# Altium footprint library PcbLib1.PcbLib: 23 footprints (part 1 of 2)
Each footprint in its own frame and in the unit in brackets; x right, y up, seen from the top. Pads: shape width x height; smd on the part's side, far side on the other; paste and mask are expansions set on the pad; w line width, h text height; cw(c..) or ccw(c..) is an arc to the next point about the centre after c.
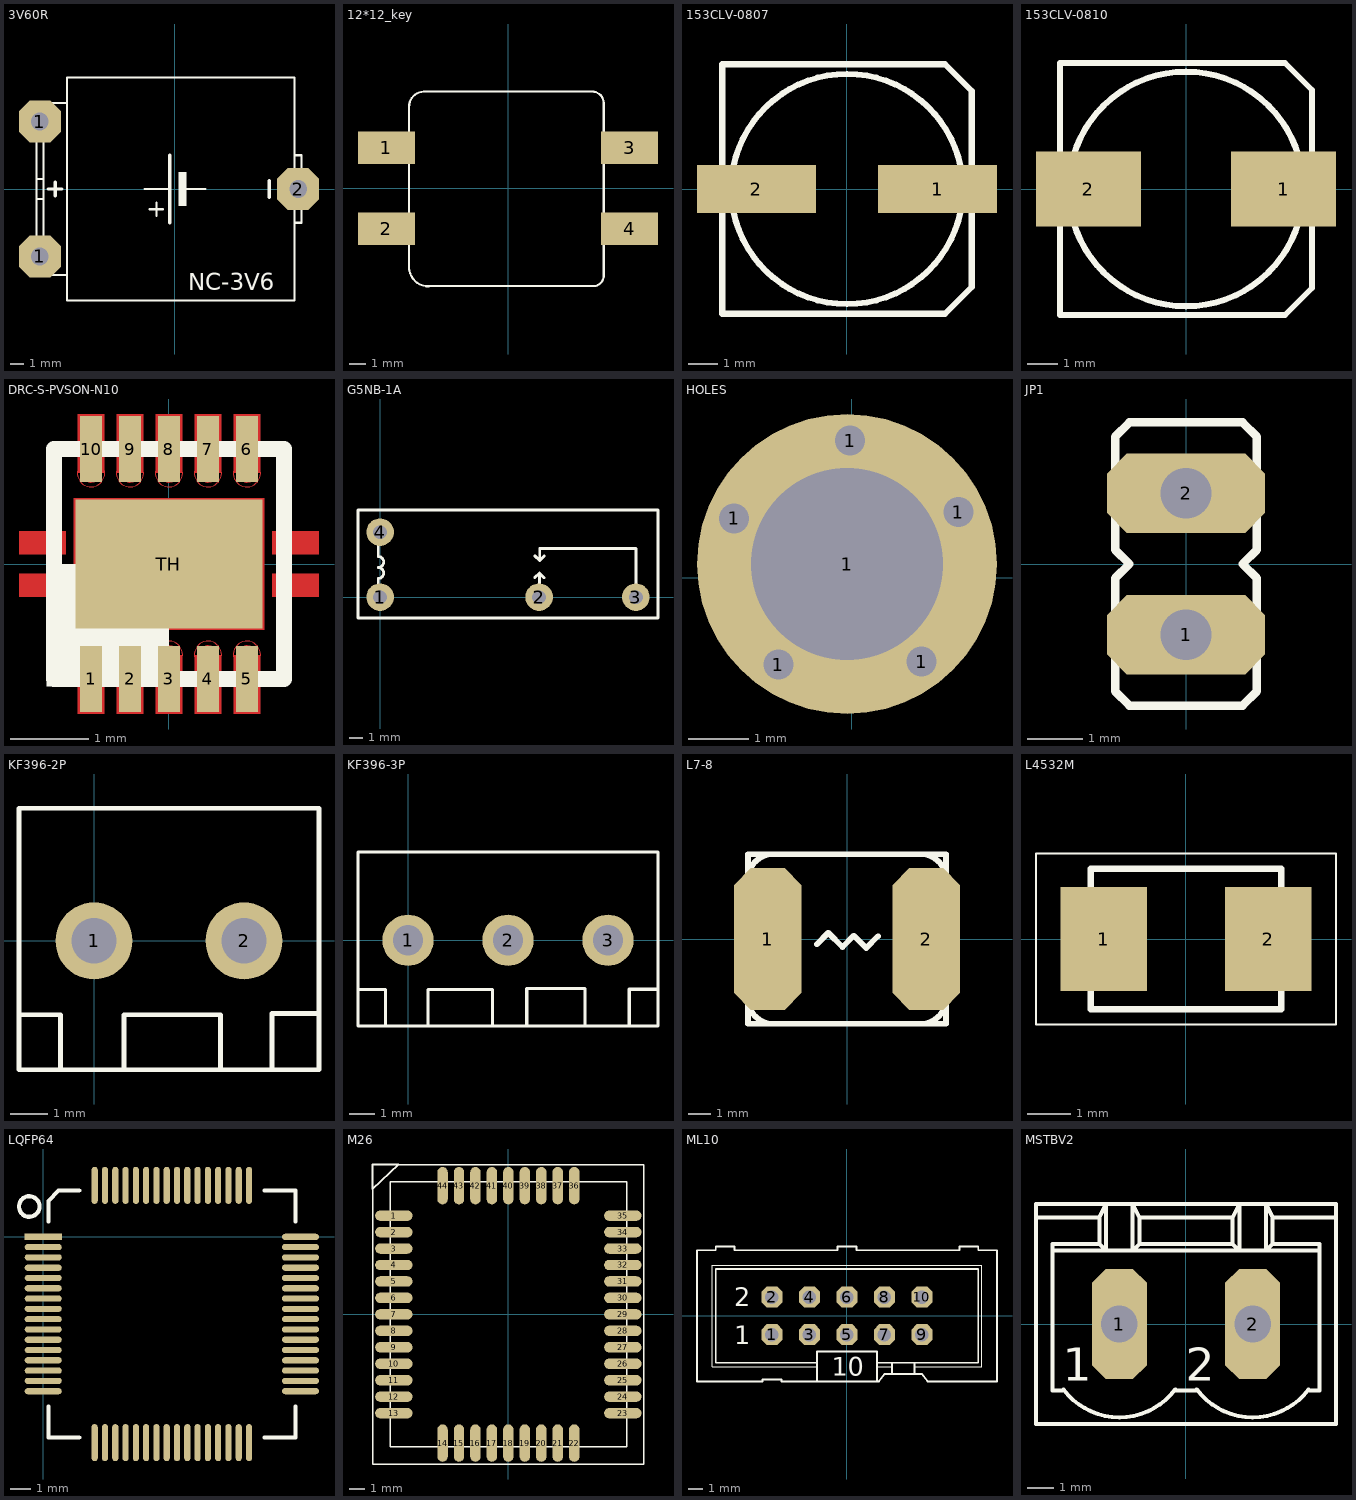
[diagram p0: the footprints below, top view; thin cyan lines are the x and y axes]

## 3V60R [mil]
pads (3):
  oct 124x124 hole 52: 1(-400,-200) 1(-400,200) 2(365,0)
Top Overlay:
  rectangle: 10,-50 35,50
  lines w6: -90,0 -15,0 ; -75,-60 -35,-60 ; -55,-80 -55,-40 ; 35,0 90,0 ; -410,-30 -410,-130 -410,-230 -390,-230 ; -410,-30 -390,-30 ; -410,-30 -410,30 ; -410,30 -390,30 ; -410,30 -410,130 -410,230 -390,230 ; -390,-230 ccw(c-365,-230) -365,-255 -355,-255 -320,-255 ; -390,-230 -390,-130 -390,-30 ; -390,-30 -390,30 ; -390,30 -390,130 -390,230 ; -390,230 cw(c-365,230) -365,255 -355,255 -320,255 ; -320,-255 -320,255 ; -320,-255 -320,-330 355,-330 355,-100 ; -320,255 -320,330 355,330 355,100 ; 355,-100 375,-100 375,-70 375,-30 ; 355,-100 355,-70 355,-30 ; 355,-30 375,-30 ; 355,-30 355,30 ; 355,30 375,30 ; 355,30 355,70 355,100 ; 355,100 375,100 375,70 375,30 ; 375,-30 375,30
  lines w10: -375,0 -335,0 ; -355,-20 -355,20 ; -15,-100 -15,0 -15,100 ; 280,-25 280,25
  text "NC-3V6" at 40,-300 h50

## 12*12_key [mm]
pads (4):
  rect 3.5x2 smd: 1(-7.5,2.5) 2(-7.5,-2.5) 3(7.5,2.5) 4(7.5,-2.5)
Top Overlay:
  lines w0.127: -6.096,-5.016 -6.096,5.016 cw(c-5.176,5.048) -5.207,5.968 ; -6.096,-4.89 ccw(c-4.912,-4.858) -4.881,-6.042 ; -5.145,5.967 5.145,5.967 ; -5.08,-6.032 5.334,-6.032 ; 5.207,-6.033 ccw(c5.238,-5.367) 5.904,-5.398 ; 5.207,5.968 cw(c5.207,5.271) 5.904,5.271 ; 5.904,-5.463 5.904,5.209

## 153CLV-0807 [mm]
pads (2):
  rect 4x1.6 smd: 1(3.05,0) 2(-3.05,0)
Top Overlay:
  lines w0.203: -4.2,-4.2 -4.2,-1.1 -4.2,1.1 -4.2,4.2 3.3,4.2 4.2,3.3 4.2,1.1 4.2,-1.1 4.2,-3.3 3.3,-4.2 -4.2,-4.2 ; -3.75,-1.05 cw(c0,0) -3.75,1.05 cw(c0,-0.025) 3.75,1.05 cw(c0,0) 3.75,-1.05 cw(c0,0.025) -3.75,-1.05

## 153CLV-0810 [mm]
pads (2):
  rect 3.5x2.5 smd: 1(3.25,0) 2(-3.25,0)
Top Overlay:
  lines w0.203: -4.2,-4.2 3.3,-4.2 4.2,-3.3 4.2,-1.5 4.2,1.5 4.2,3.3 3.3,4.2 -4.2,4.2 -4.2,1.5 -4.2,-1.5 -4.2,-4.2 ; -3.65,-1.4 ccw(c0,0) 3.65,-1.4 ccw(c0,0) 3.65,1.4 ccw(c0,0) -3.65,1.4 ccw(c0,0) -3.65,-1.4

## DRC-S-PVSON-N10 [mm]
pads (11):
  rect 0.28x0.85 smd: 1(-1,-1.475) 2(-0.5,-1.475) 3(0,-1.475) 4(0.5,-1.475) 5(1,-1.475) 6(1,1.475) 7(0.5,1.475) 8(0,1.475) 9(-0.5,1.475) 10(-1,1.475)
  rect 2.4x1.65 smd: TH(0,0)
Top Layer:
  circle w0.008: c-1,1.165 r0.175
  circle w0.008: c-0.5,1.165 r0.175
  circle w0.008: c0,1.165 r0.175
  circle w0.008: c0.5,1.165 r0.175
  circle w0.008: c1,1.165 r0.175
  circle w0.008: c1,-1.165 r0.175
  circle w0.008: c0.5,-1.165 r0.175
  circle w0.008: c0,-1.165 r0.175
  circle w0.008: c-0.5,-1.165 r0.175
  circle w0.008: c-1,1.165 r0.115
  circle w0.008: c-0.5,1.165 r0.115
  circle w0.008: c0,1.165 r0.115
  circle w0.008: c0.5,1.165 r0.115
  circle w0.008: c1,1.165 r0.115
  circle w0.008: c1,-1.165 r0.115
  circle w0.008: c0.5,-1.165 r0.115
  circle w0.008: c0,-1.165 r0.115
  circle w0.008: c-0.5,-1.165 r0.115
  circle w0.008: c-1,-1.165 r0.115
  circle w0.008: c-1,-1.165 r0.175
  region: 1.9,0.4 1.325,0.4 1.325,0.15 1.9,0.15
  region: 1.9,-0.15 1.325,-0.15 1.325,-0.4 1.9,-0.4
  region: 1.925,0.425 1.325,0.425 1.325,0.125 1.925,0.125
  region: 1.925,-0.125 1.325,-0.125 1.325,-0.425 1.925,-0.425
  region: -0.825,1.925 -1.175,1.925 -1.175,1.165 -0.825,1.165
  region: -0.325,1.925 -0.675,1.925 -0.675,1.165 -0.325,1.165
  region: 0.175,1.925 -0.175,1.925 -0.175,1.165 0.175,1.165
  region: 0.675,1.925 0.325,1.925 0.325,1.165 0.675,1.165
  region: 1.175,1.925 0.825,1.925 0.825,1.165 1.175,1.165
  rectangle: 0.825,-1.925 1.175,-1.165
  rectangle: 0.325,-1.925 0.675,-1.165
  rectangle: -0.175,-1.925 0.175,-1.165
  rectangle: -0.675,-1.925 -0.325,-1.165
  region: -1.115,1.85 -1.115,1.165 -0.885,1.165 -0.885,1.85
  region: -0.615,1.85 -0.615,1.165 -0.385,1.165 -0.385,1.85
  region: -0.115,1.85 -0.115,1.165 0.115,1.165 0.115,1.85
  region: 0.385,1.85 0.385,1.165 0.615,1.165 0.615,1.85
  region: 0.885,1.85 0.885,1.165 1.115,1.165 1.115,1.85
  region: 1.115,-1.85 1.115,-1.165 0.885,-1.165 0.885,-1.85
  region: 0.615,-1.85 0.615,-1.165 0.385,-1.165 0.385,-1.85
  region: 0.115,-1.85 0.115,-1.165 -0.115,-1.165 -0.115,-1.85
  region: -0.385,-1.85 -0.385,-1.165 -0.615,-1.165 -0.615,-1.85
  region: -0.885,-1.85 -0.885,-1.165 -1.115,-1.165 -1.115,-1.85
  rectangle: -1.175,-1.925 -0.825,-1.165
  region: 1.175,0.8 0.15,0.8 0.15,0.15 1.175,0.15
  region: 1.175,-0.15 0.15,-0.15 0.15,-0.8 1.175,-0.8
  rectangle: -1.175,-0.8 -0.15,-0.15
  rectangle: -1.175,0.15 -0.15,0.8
  rectangle: -1.9,-0.4 -1.325,-0.15
  rectangle: -1.9,0.15 -1.325,0.4
  rectangle: -1.225,-0.85 1.225,0.85
  rectangle: -1.925,-0.425 -1.325,-0.125
  rectangle: -1.925,0.125 -1.325,0.425
Top Overlay:
  rectangle: -1.575,-1.575 0,0
  lines w0.203: -1.475,-0.747 -1.475,-1.475 ; -1.475,0.748 -1.475,1.475 ; 1.475,-0.747 1.475,-1.475 ; 1.475,0.748 1.475,1.475 ; -1.475,-1.475 -1.475,1.475 ; -1.475,-1.475 1.475,-1.475 ; -1.475,1.475 1.475,1.475 ; 1.475,-1.475 1.475,1.475

## G5NB-1A [mm]
pads (4):
  round 2 hole 1: 1(0,0) 2(11.5,0) 3(18.5,0) 4(0,4.7)
Top Overlay:
  lines w0.203: -0.139,-0.53 -0.139,1.35 ccw(c-0.139,1.75) -0.139,2.15 ccw(c-0.139,2.55) -0.139,2.95 -0.139,3.939 ; 11.189,1.425 11.519,1.755 ; 11.189,3 11.544,2.644 ; 11.519,0.968 11.519,1.755 ; 11.874,1.4 11.519,1.755 ; 11.874,2.974 11.544,2.644 ; 18.5,0 18.5,3.53 11.544,3.53 11.544,2.644 ; -1.6,-1.5 -1.6,6.3 20.1,6.3 20.1,-1.5 -1.6,-1.5

## HOLES [mm]
pads (6):
  round 0.5 hole 0.5: 1(-1.956,0.991) 1(-1.219,-1.448) 1(-0.025,2.286) 1(1.168,-1.397) 1(1.778,1.092)
  round 5 hole 3.2: 1(-0.076,0.229)

## JP1 [mil]
pads (2):
  oct 112x56 hole 36: 1(0,-50) 2(0,50)
Top Overlay:
  rectangle: -12,38 12,62
  rectangle: -12,-62 12,-38
  lines w6: -50,-90 -50,-10 -40,0 -50,10 -50,90 -40,100 40,100 50,90 50,10 40,0 50,-10 50,-90 40,-100 -40,-100 -50,-90

## KF396-2P [mil]
pads (2):
  round 80 hole 47.24: 1(0,0) 2(155.91,0)
Top Overlay:
  lines w5: -77.95,-76.86 -34.95,-76.86 -34.95,-132.86 ; 31.05,-133.86 31.05,-76.86 131.55,-76.86 131.55,-133.86 ; 185.05,-132.36 185.05,-75.36 233.86,-75.36 ; -77.95,-133.86 233.86,-133.86 233.86,137.8 -77.95,137.8 -77.95,-133.86

## KF396-3P [mil]
pads (3):
  round 80 hole 47.24: 1(0,0) 2(155.91,0) 3(311.81,0)
Top Overlay:
  lines w5: -77.95,-76.86 -34.95,-76.86 -34.95,-132.86 ; 31.05,-133.86 31.05,-76.86 131.55,-76.86 131.55,-133.86 ; 185.05,-132.36 185.05,-75.36 233.86,-75.36 276.05,-75.36 276.05,-132.86 ; 345.05,-133.36 345.05,-76.36 389.76,-76.36 ; -77.95,-133.86 -77.95,137.8 389.76,137.8 389.76,-133.86 -77.95,-133.86

## L7-8 [mil]
pads (2):
  oct 120x250 smd: 1(-140,0) 2(140,0)
Top Overlay:
  lines w10: -53.18,-9.18 -33,11 -8,-14 12,6 34,-16 55,5 ; -175,-150 -175,150 175,150 175,-150 -175,-150 ; -175,-105 ccw(c-130,-105) -130,-150 130,-150 ccw(c130,-105) 175,-105 175,105 ccw(c130,105) 130,150 -130,150 ccw(c-130,105) -175,105 -175,-105

## L4532M [mm]
pads (2):
  rect 2x2.4 smd: 1(-1.9,0) 2(1.9,0)
Top Overlay:
  lines w0.051: -3.473,-1.983 -3.473,1.983 3.473,1.983 3.473,-1.983 -3.473,-1.983
  lines w0.152: -2.337,-1.041 -2.337,1.041 ; 2.337,-1.041 2.337,1.041 ; -2.21,-1.626 -2.21,1.626 2.21,1.626 2.21,-1.626 -2.21,-1.626

## LQFP64 [mm]
pads (64):
  rect 1.8x0.3 smd: 1(0,0)
  oval 1.8x0.3 smd: 2(0,-0.5) 3(0,-1) 4(0,-1.5) 5(0,-2) 6(0,-2.5) 7(0,-3) 8(0,-3.5) 9(0,-4) 10(0,-4.5) 11(0,-5) 12(0,-5.5) 13(0,-6) 14(0,-6.5) 15(0,-7) 16(0,-7.5) 33(12.5,-7.5) 34(12.5,-7) 35(12.5,-6.5) 36(12.5,-6) 37(12.5,-5.5) 38(12.5,-5) 39(12.5,-4.5) 40(12.5,-4) 41(12.5,-3.5) 42(12.5,-3) 43(12.5,-2.5) 44(12.5,-2) 45(12.5,-1.5) 46(12.5,-1) 47(12.5,-0.5) 48(12.5,0)
  oval 0.3x1.8 smd: 17(2.5,-10) 18(3,-10) 19(3.5,-10) 20(4,-10) 21(4.5,-10) 22(5,-10) 23(5.5,-10) 24(6,-10) 25(6.5,-10) 26(7,-10) 27(7.5,-10) 28(8,-10) 29(8.5,-10) 30(9,-10) 31(9.5,-10) 32(10,-10) 49(10,2.5) 50(9.5,2.5) 51(9,2.5) 52(8.5,2.5) 53(8,2.5) 54(7.5,2.5) 55(7,2.5) 56(6.5,2.5) 57(6,2.5) 58(5.5,2.5) 59(5,2.5) 60(4.5,2.5) 61(4,2.5) 62(3.5,2.5) 63(3,2.5) 64(2.5,2.5)
Top Overlay:
  circle w0.2: c-0.678,1.473 r0.5
  lines w0.2: 0.25,-8.25 0.25,-9.75 1.75,-9.75 ; 0.25,0.75 0.25,1.75 0.75,2.25 1.75,2.25 ; 10.75,-9.75 12.25,-9.75 12.25,-8.25 ; 10.75,2.25 12.25,2.25 12.25,0.75

## M26 [mm]
pads (44):
  oval 2.5x0.7 smd: 1(-7.65,6.6) 2(-7.65,5.5) 3(-7.65,4.4) 4(-7.65,3.3) 5(-7.65,2.2) 6(-7.65,1.1) 7(-7.65,0) 8(-7.65,-1.1) 9(-7.65,-2.2) 10(-7.65,-3.3) 11(-7.65,-4.4) 12(-7.65,-5.5) 13(-7.65,-6.6) 23(7.65,-6.6) 24(7.65,-5.5) 25(7.65,-4.4) 26(7.65,-3.3) 27(7.65,-2.2) 28(7.65,-1.1) 29(7.65,0) 30(7.65,1.1) 31(7.65,2.2) 32(7.65,3.3) 33(7.65,4.4) 34(7.65,5.5) 35(7.65,6.6)
  oval 0.7x2.5 smd: 14(-4.4,-8.6) 15(-3.3,-8.6) 16(-2.2,-8.6) 17(-1.1,-8.6) 18(0,-8.6) 19(1.1,-8.6) 20(2.2,-8.6) 21(3.3,-8.6) 22(4.4,-8.6) 36(4.4,8.6) 37(3.3,8.6) 38(2.2,8.6) 39(1.1,8.6) 40(0,8.6) 41(-1.1,8.6) 42(-2.2,8.6) 43(-3.3,8.6) 44(-4.4,8.6)
Top Overlay:
  lines w0.1: -9.1,8.352 -9.1,10.05 -7.339,10.05 -9.1,8.352 ; -9.05,-10 -9.05,10 9.05,10 9.05,-10 -9.05,-10 ; -7.9,-8.85 -7.9,8.85 7.9,8.85 7.9,-8.85 -7.9,-8.85

## ML10 [mil]
pads (10):
  oct 56x56 hole 36: 1(-200,-50) 2(-200,50) 3(-100,-50) 4(-100,50) 5(0,-50) 6(0,50) 7(100,-50) 8(100,50) 9(200,-50) 10(200,50)
Top Overlay:
  rectangle: -110,40 -90,60
  rectangle: -210,40 -190,60
  rectangle: -10,40 10,60
  rectangle: 190,40 210,60
  rectangle: 90,40 110,60
  rectangle: -110,-60 -90,-40
  rectangle: -210,-60 -190,-40
  rectangle: -10,-60 10,-40
  rectangle: 190,-60 210,-40
  rectangle: 90,-60 110,-40
  lines w2: -80,-135 -360,-135 -360,135 360,135 360,-135 180,-135 ; 80,-135 120,-135
  lines w5: -80,-175 80,-175 ; -80,-175 -80,-135 -80,-125 ; -80,-175 -175,-175 -175,-170 -225,-170 -225,-175 -400,-175 -400,175 -350,175 -350,185 -300,185 -300,175 -25,175 -25,185 25,185 25,175 300,175 300,185 350,185 350,175 400,175 400,-175 215,-175 200,-155 180,-155 ; -80,-125 -80,-95 80,-95 80,-125 ; -80,-125 -350,-125 -350,125 350,125 350,-125 180,-125 ; 80,-175 85,-175 100,-155 120,-155 ; 80,-175 80,-135 80,-125 ; 80,-125 120,-125 ; 120,-155 120,-135 120,-125 ; 120,-155 180,-155 ; 120,-125 180,-125 ; 180,-155 180,-135 180,-125
  text "10" at -40,-160 h50
  text "1" at -300,-75 h50
  text "2" at -300,25 h50

## MSTBV2 [mil]
pads (2):
  oct 82.5x165 hole 55: 1(-100,0) 2(100,0)
Top Overlay:
  lines w6: -184,-98 ccw(c-100,-35) -100,-140 ccw(c-100,-35) -16,-98 ; -183,-100 -200,-100 -200,110 ; -15,-100 15,-100 ; 16,-98 ccw(c100,-35) 100,-140 ccw(c100,-35) 184,-98 ; 183,-100 200,-100 200,110 ; -225,160 -130,160 ; -225,160 -225,-150 225,-150 225,160 ; -225,160 -225,180 -120,180 ; -200,110 -120,110 ; -200,110 -200,120 -130,120 ; -130,120 -120,110 ; -130,120 -130,160 ; -130,160 -120,180 ; -125,-25 -75,25 ; -125,-25 -75,-25 ; -125,-25 -125,25 ; -125,25 -75,-25 ; -125,25 -75,25 ; -120,110 -120,180 ; -120,110 -80,110 ; -120,180 -80,180 ; -80,110 -70,120 ; -80,110 -80,180 ; -80,110 80,110 ; -80,180 -70,160 ; -80,180 80,180 ; -75,-25 -75,25 ; -70,120 -70,160 ; -70,120 70,120 ; -70,160 70,160 ; 70,120 80,110 ; 70,120 70,160 ; 70,160 80,180 ; 75,-25 125,25 ; 75,-25 125,-25 ; 75,-25 75,25 ; 75,25 125,-25 ; 75,25 125,25 ; 80,110 80,180 ; 80,110 120,110 ; 80,180 120,180 ; 120,110 130,120 ; 120,110 120,180 ; 120,110 200,110 ; 120,180 130,160 ; 120,180 225,180 225,160 ; 125,-25 125,25 ; 130,120 200,120 200,110 ; 130,120 130,160 ; 130,160 225,160
  text "2" at 0,-85 h50
  text "1" at -185,-85 h50